# EAGLE library part C7022064 (library con-amphenol)
AMPHENOL CONNECTOR
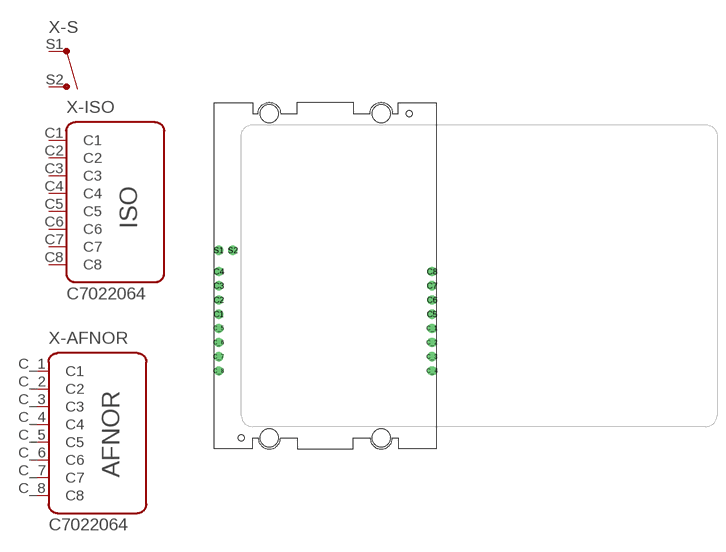
[diagram p5: symbol with the pads of C7022064; footprint C7022064]

Designator prefix X; gates -S=S -ISO=ISO8 -AFNOR=AFNOR

## C7022064 (OC_FARNELL: unknown; OC_NEWARK: unknown)  [C7022064]
C1  -ISO:C1  pas
C2  -ISO:C2  pas
C3  -ISO:C3  pas
C4  -ISO:C4  pas
C5  -ISO:C5  pas
C6  -ISO:C6  pas
C7  -ISO:C7  pas
C8  -ISO:C8  pas
C_1  -AFNOR:C1  pas
C_2  -AFNOR:C2  pas
C_3  -AFNOR:C3  pas
C_4  -AFNOR:C4  pas
C_5  -AFNOR:C5  pas
C_6  -AFNOR:C6  pas
C_7  -AFNOR:C7  pas
C_8  -AFNOR:C8  pas
S1  -S:S1  pas
S2  -S:S2  pas

## Footprint C7022064 (pad centres in mm)
AMPHENOL CONNECTOR
drill 1.1: C1 -19.05,-6.88; C2 -19.05,-4.34; C3 -19.05,-1.8; C4 -19.05,0.74; C5 19.05,-6.88; C6 19.05,-4.34; C7 19.05,-1.8; C8 19.05,0.74; C_1 19.05,-9.42; C_2 19.05,-11.96; C_3 19.05,-14.5; C_4 19.05,-17.04; C_5 -19.05,-9.42; C_6 -19.05,-11.96; C_7 -19.05,-14.5; C_8 -19.05,-17.04; S1 -19.05,4.55; S2 -16.51,4.55
hole 3.2 at -10,-29
hole 3.2 at 10,-29
hole 3.2 at 10,29
hole 3.2 at -10,29
hole 1.1 at -15,-29
hole 1.1 at 15,29